# Altium integrated library DC-Ansteuerung.IntLib: 6 symbols
Pins are listed as number, name and electrical type; pins without a type are passive.

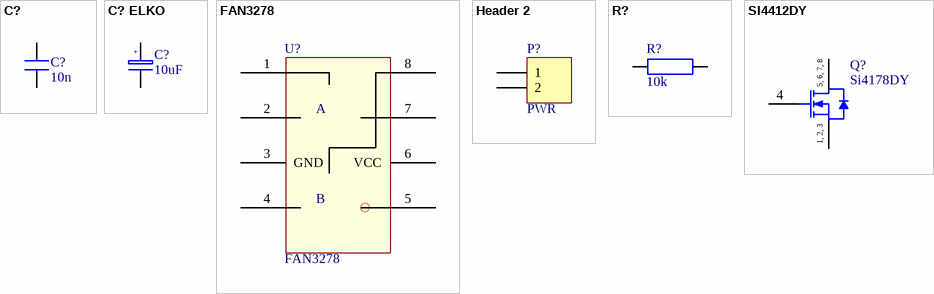
[diagram p0: symbols C? to SI4412DY]

## C?
designator C?, comment 10n
Normaler Kondensator
footprint 0805
pins: 1, 2

## C? ELKO
designator C?, comment value 10uF  (hidden comment: 100u)
Elektrolyt /polarisierter Kondensator; Distributor: Farnell; Distributor Nr.: 1457414; Price: 0.402
footprint ElkoFootprint
footprint CAPPA14.05-10.5x6.3 (Capacitor, Electrolytic, Axial; Body 10.5 x 6.3 mm (LxDia. max), Lead Dia. 0.6 mm (typ))
pins: 1, 2
text: +

## FAN3278
designator U?
footprint SO-8_L (8-Pin Plastic Small Outline Integrated Circuit 1.27 mm Pitch, IPC High Density)
pins: 1, 2, 3 GND, 4, 5, 6 VCC, 7, 8
text: A; B

## Header 2
designator P?, comment PWR
Header, 2-Pin; LatestRevisionDate: 17-Jul-2002; LatestRevisionNote: Re-released for DXP Platform.; Publisher: Altium Limited
footprint Stecker_1x2_200mil
signal-integrity model Connector
pins: 1, 2

## R?
designator R?, comment 10k
Normaler Widerstand
footprint 0805
pins: 1, 2

## SI4412DY
designator Q?, comment Si4178DY
N-Channel 30V (D-S)  Rated MOSFET; Published: 8-Jun-2000; LatestRevisionDate: 13-Apr-2006; LatestRevisionNote: IPC-7351 Footprint Added.; DatasheetVersion: 6-Oct-1997; PackageVersion: Aug-1998; PackageReference: SO-8; Publisher: Altium Limited; PackageDescription: 8-Pin Small Outline Integrated Circuit 1.27 mm Pitch; ComponentLink1Description: Manufacturer Link; ComponentLink1URL: http://www.vishay.com/; ComponentLink2Description: Datasheet; ComponentLink2URL: http://www.vishay.com/docs/70154/70154.pdf
footprint SO-8_N (SOIC, 8-Leads, Body 4.9x3.9mm, Pitch 1.27mm, IPC Medium Density)
footprint SO-8_L (SOIC, 8-Leads, Body 4.9x3.9mm, Pitch 1.27mm, IPC High Density)
footprint SO-8_M (SOIC, 8-Leads, Body 4.9x3.9mm, Pitch 1.27mm, IPC Low Density)
3D model SO-8 (8-Pin Small Outline Integrated Circuit 1.27 mm Pitch)
simulation model SI4412DY (SUBCKT)
pins: 1 S, 2 S, 3 S, 4 G, 5 D, 6 D, 7 D, 8 D
text: 5, 6, 7, 8; 1, 2, 3